# Altium footprint library DBV-5_TI.PcbLib: 1 footprints
Each footprint in its own frame and in the unit in brackets; x right, y up, seen from the top. Pads: shape width x height; smd on the part's side, far side on the other; paste and mask are expansions set on the pad; w line width, h text height; cw(c..) or ccw(c..) is an arc to the next point about the centre after c.
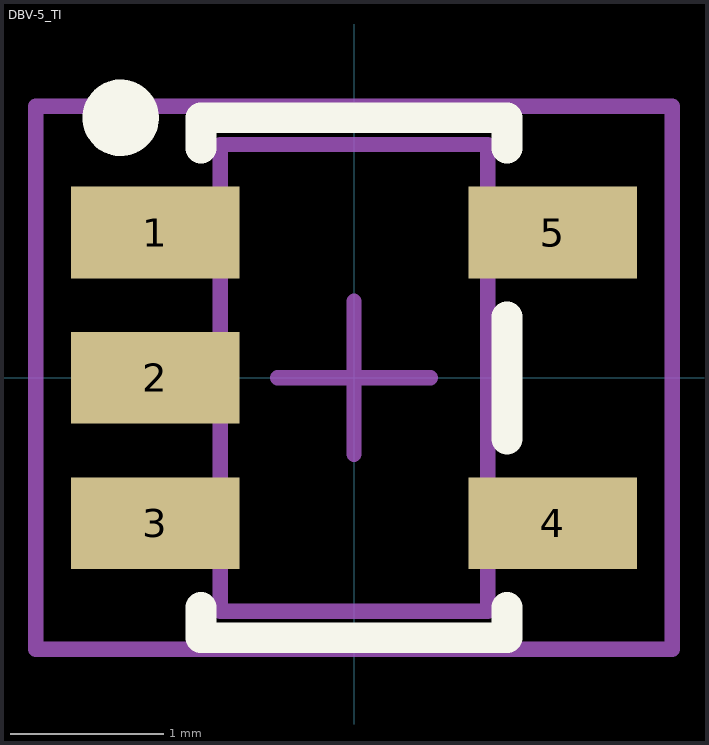
[diagram p0: the footprint, top view; thin cyan lines are the x and y axes]

## DBV-5_TI [mm]
height 1.45
pads (5):
  rect 1.1x0.6 smd: 1(-1.3,0.95) 2(-1.3,0) 3(-1.3,-0.95) 4(1.3,-0.95) 5(1.3,0.95)
Top Overlay:
  circle w0.25: c-1.525,1.7 r0.125
  lines w0.2: -1,-1.5 -1,-1.7 1,-1.7 1,-1.5 ; -1,1.5 -1,1.7 1,1.7 1,1.5 ; 1,-0.4 1,0.4
Mechanical 13:
  lines w0.1: -0.875,-1.525 0.875,-1.525 0.875,1.525 -0.875,1.525 -0.875,-1.525
Mechanical 15:
  lines w0.1: -0.5,0 0.5,0 ; 0,-0.5 0,0.5 ; -2.08,-1.775 2.08,-1.775 2.08,1.775 -2.08,1.775 -2.08,-1.775
3D body "dbv-5_ti.stp": height 1.15, standoff 0, extent -1.4,-1.48 1.4,1.47